# EAGLE library part SSSS213202 (library Switch)
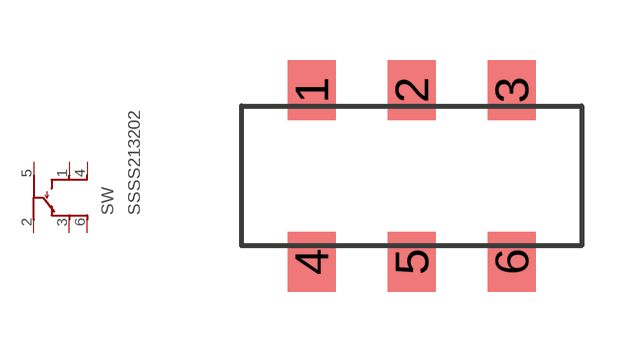
[diagram p1: symbol with the pads of SSSS213202; footprint SSSS213202]

Designator prefix SW

## SSSS213202  [SSSS213202]
1  L1  pas
2  C1  pas
3  R1  pas
4  L2  pas
5  C2  pas
6  R2  pas

## Footprint SSSS213202 (pad centres in mm)
smd 1.2 x 1.5: 1 -2.45,2.2; 2 0.05,2.2; 3 2.55,2.2; 4 -2.45,-2.1; 5 0.05,-2.1; 6 2.55,-2.1